# EAGLE library part 1571983-4 (library 1571983-4)
SWITCH SLIDE DIP SPST 25MA 24V
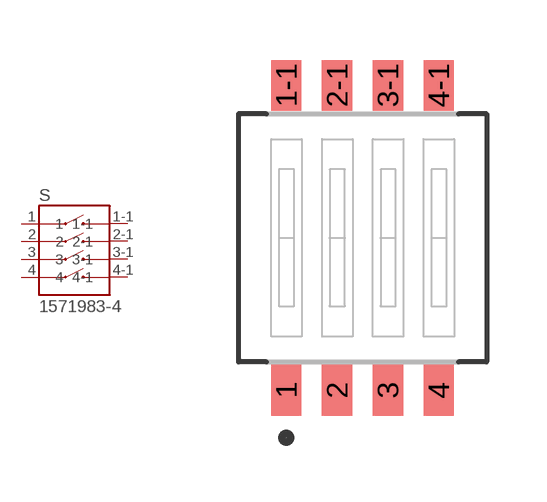
[diagram p0: symbol with the pads of SW_1571983-4; footprint SW_1571983-4]

Designator prefix S

## 1571983-4 (Availability: Unavailable; Comment: 1571983-4; Description: Switch GDH04S04=DIP SWITCH 4 POS; MF: TE Connectivity; MP: 1571983-4; Package: None; Price: None; TE_purchase_URL: https://www.te.com/usa-en/product-1571983-4.html?te_bu=Cor&te_type=disp&te_campaign=seda_glo_cor-seda-global-disp-prtnr-fy19-seda-model-bom-cta_sma-317_1&elqCampaignId=32493)  [SW_1571983-4]
1  1  pas
1-1  1-1  pas
2  2  pas
2-1  2-1  pas
3  3  pas
3-1  3-1  pas
4  4  pas
4-1  4-1  pas

## Footprint SW_1571983-4 (pad centres in mm)
smd 0.76 x 1.27: 1 -1.905,-3.81; 1-1 -1.905,3.81; 2 -0.635,-3.81; 2-1 -0.635,3.81; 3 0.635,-3.81; 3-1 0.635,3.81; 4 1.905,-3.81; 4-1 1.905,3.81